# Altium schematic symbol library My.SchLib: 3 symbols
Pins are listed as number, name and electrical type; pins without a type are passive.

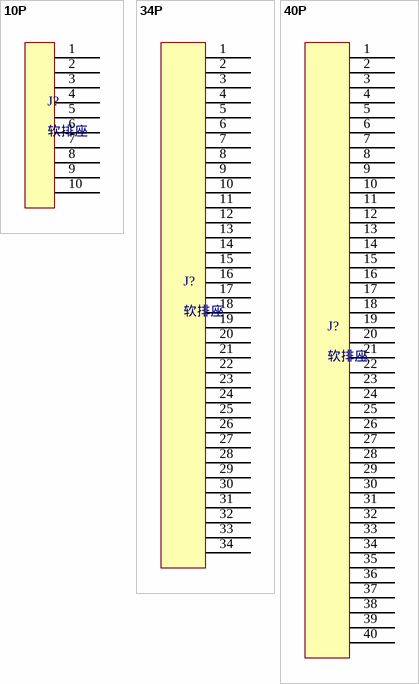
[diagram p0: symbols 10P to 40P]

## 10P
designator J?, comment 软排座
footprint 10P软排线 (10P)
pins: 1, 2, 3, 4, 5, 6, 7, 8, 9, 10

## 34P
designator J?, comment 软排座
footprint 34P软排线 (34P)
pins: 1, 2, 3, 4, 5, 6, 7, 8, 9, 10, 11, 12, 13, 14, 15, 16, 17, 18, 19, 20, 21, 22, 23, 24, 25, 26, 27, 28, 29, 30, 31, 32, 33, 34

## 40P
designator J?, comment 软排座
footprint 40P软排线 (40P)
pins: 1, 2, 3, 4, 5, 6, 7, 8, 9, 10, 11, 12, 13, 14, 15, 16, 17, 18, 19, 20, 21, 22, 23, 24, 25, 26, 27, 28, 29, 30, 31, 32, 33, 34, 35, 36, 37, 38, 39, 40